# Altium footprint library BB-HEADER-DUAL-P01-P38.PcbLib: 1 footprints
Each footprint in its own frame and in the unit in brackets; x right, y up, seen from the top. Pads: shape width x height; smd on the part's side, far side on the other; paste and mask are expansions set on the pad; w line width, h text height; cw(c..) or ccw(c..) is an arc to the next point about the centre after c.
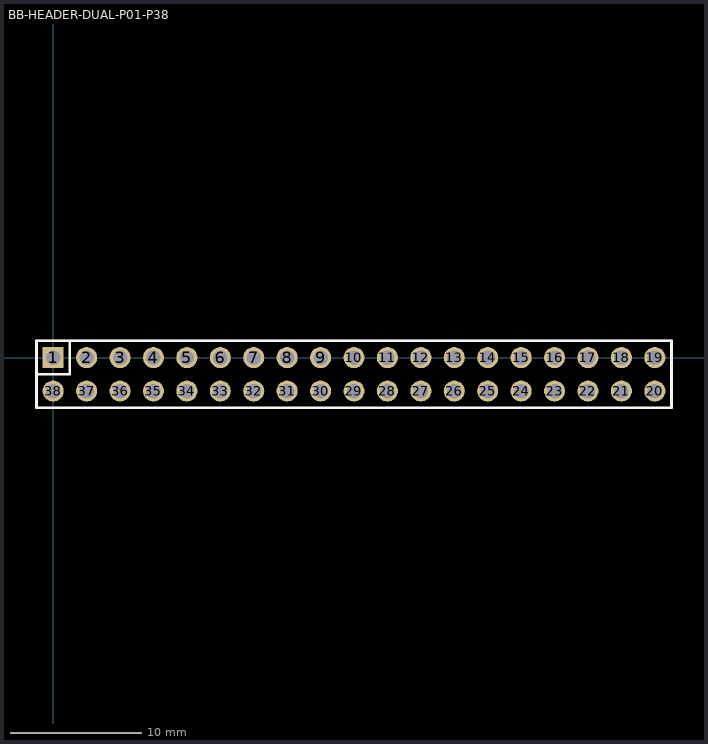
[diagram p0: the footprint, top view; thin cyan lines are the x and y axes]

## BB-HEADER-DUAL-P01-P38 [mm] "Dual Row BB Header, Vertical, Male, 0.1\"2.54mm,P01-P38"
height 11.6
pads (38):
  rect 1.6x1.6 hole 1.1: 1(0,0)
  round 1.6 hole 1.1: 2(2.54,0) 3(5.08,0) 4(7.62,0) 5(10.16,0) 6(12.7,0) 7(15.24,0) 8(17.78,0) 9(20.32,0) 10(22.86,0) 11(25.4,0) 12(27.94,0) 13(30.48,0) 14(33.02,0) 15(35.56,0) 16(38.1,0) 17(40.64,0) 18(43.18,0) 19(45.72,0)
  round 1.6 hole 1.1 unplated: 20(45.72,-2.54) 21(43.18,-2.54) 22(40.64,-2.54) 23(38.1,-2.54) 24(35.56,-2.54) 25(33.02,-2.54) 26(30.48,-2.54) 27(27.94,-2.54) 28(25.4,-2.54) 29(22.86,-2.54) 30(20.32,-2.54) 31(17.78,-2.54) 32(15.24,-2.54) 33(12.7,-2.54) 34(10.16,-2.54) 35(7.62,-2.54) 36(5.08,-2.54) 37(2.54,-2.54) 38(0,-2.54)
Top Overlay:
  lines w0.2: -1.27,-1.27 1.27,-1.27 1.27,1.27 ; -1.27,-3.81 46.99,-3.81 46.99,1.27 0.635,1.27 -1.27,1.27 -1.27,-3.81
Mechanical 13:
  lines w0.1: -1.27,-3.81 46.99,-3.81 46.99,1.27 -1.27,1.27 -1.27,-3.81
Mechanical 15:
  lines w0.1: -1.32,-3.81 -1.32,1.32 47.04,1.32 47.04,-3.81 -1.32,-3.81
3D body: height 8.57, standoff -2.97, extent 44.45,-1.27 46.99,1.27
3D body: height 8.54, standoff -3, extent -1.27,-1.27 44.45,1.27
3D body: height 8.54, standoff -3, extent 1.27,-3.81 46.99,-1.27
3D body: height 8.57, standoff -2.97, extent -1.27,-3.81 1.27,-1.27